# Altium schematic symbol library TSW-112-07-F-S-LL.SchLib: 1 symbol
Pins are listed as number, name and electrical type; pins without a type are passive.

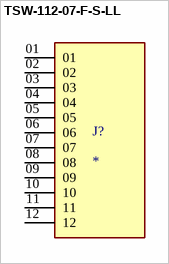
[diagram p0: symbol TSW-112-07-F-S-LL]

## TSW-112-07-F-S-LL
designator J?
MP: TSW-112-07-F-S-LL; Package: None; Price: None; Value: *; Availability: Unavailable
footprint SAMTEC_TSW-112-07-F-S-LL
pins: 01, 02, 03, 04, 05, 06, 07, 08, 09, 10, 11, 12